# EAGLE library part USB_TYP-MINI-B (library 000_eigene_Bauteile)
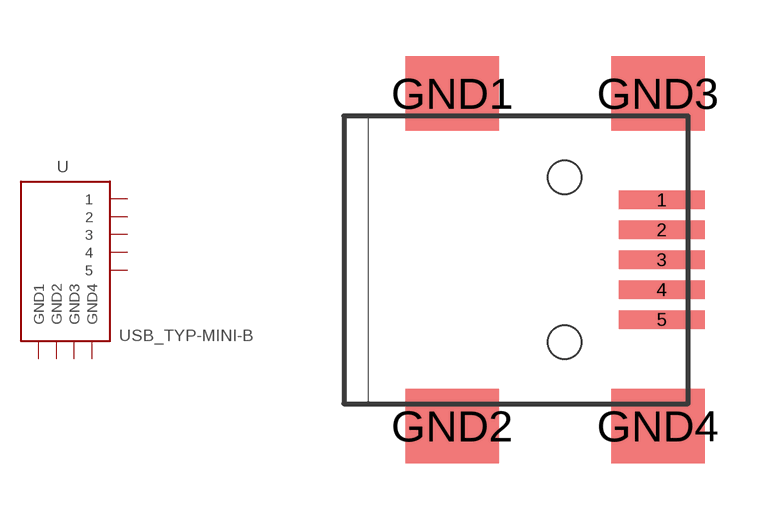
[diagram p2: symbol with the pads of USB_TYP-MINI-B; footprint USB_TYP-MINI-B]

Designator prefix -

## USB_TYP-MINI-B  [USB_TYP-MINI-B]
1  1
2  2
3  3
4  4
5  5
GND1  GND1
GND2  GND2
GND3  GND3
GND4  GND4

## Footprint USB_TYP-MINI-B (pad centres in mm)
smd 2.3 x 0.5: 1 -1.15,1.6; 2 -1.15,0.8; 3 -1.15,0; 4 -1.15,-0.8; 5 -1.15,-1.6
smd 2.5 x 2: GND1 -6.75,4.45; GND2 -6.75,-4.45; GND3 -1.25,4.45; GND4 -1.25,-4.45
hole 0.9 at -3.75,2.2
hole 0.9 at -3.75,-2.2